# EAGLE library part PS-SCHROFF-PSX2XX-DUAL (library 1A-meinLib)
Einschubnetzteil, linear, doppelt, Typ: PSK (6TE), PSM (10TE), PSG (14TE) 2xx, Schroff
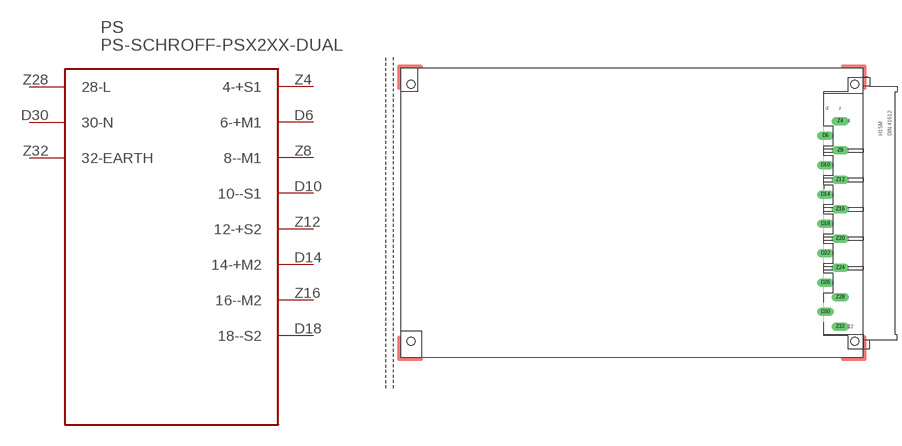
[diagram p85: symbol with the pads of H15ML; footprint H15ML]

Designator prefix PS

## PS-SCHROFF-PSX2XX-DUAL  [H15ML]
D6  6-+M1
D10  10--S1
D14  14-+M2
D18  18--S2
D30  30-N  in
Z4  4-+S1
Z8  8--M1
Z12  12-+S2
Z16  16--M2
Z28  28-L  in
Z32  32-EARTH  in

## Footprint H15ML (pad centres in mm)
CONNECTOR male, 15 pins, type H, rows DZ
drill 1.6 pad 3 long: D6 -10.16,26.67; D10 -10.16,16.51; D14 -10.16,6.35; D18 -10.16,-3.81; D22 -10.16,-13.97; D26 -10.16,-24.13; D30 -10.16,-34.29; Z4 -5.08,31.75; Z8 -5.08,21.59; Z12 -5.08,11.43; Z16 -5.08,1.27; Z20 -5.08,-8.89; Z24 -5.08,-19.05; Z28 -5.08,-29.21; Z32 -5.08,-39.37
hole 2.794 at 0,-44.45
hole 2.794 at 0,44.45
hole 2.794 at 0,44.45
hole 2.794 at 0,-44.45
hole 2.794 at -153.67,-44.45
hole 2.794 at -153.67,44.45
hole 2.8 at 0,44.45
hole 2.8 at 0,-44.45